# EAGLE library part OPEN_CON (library Bat-Components)
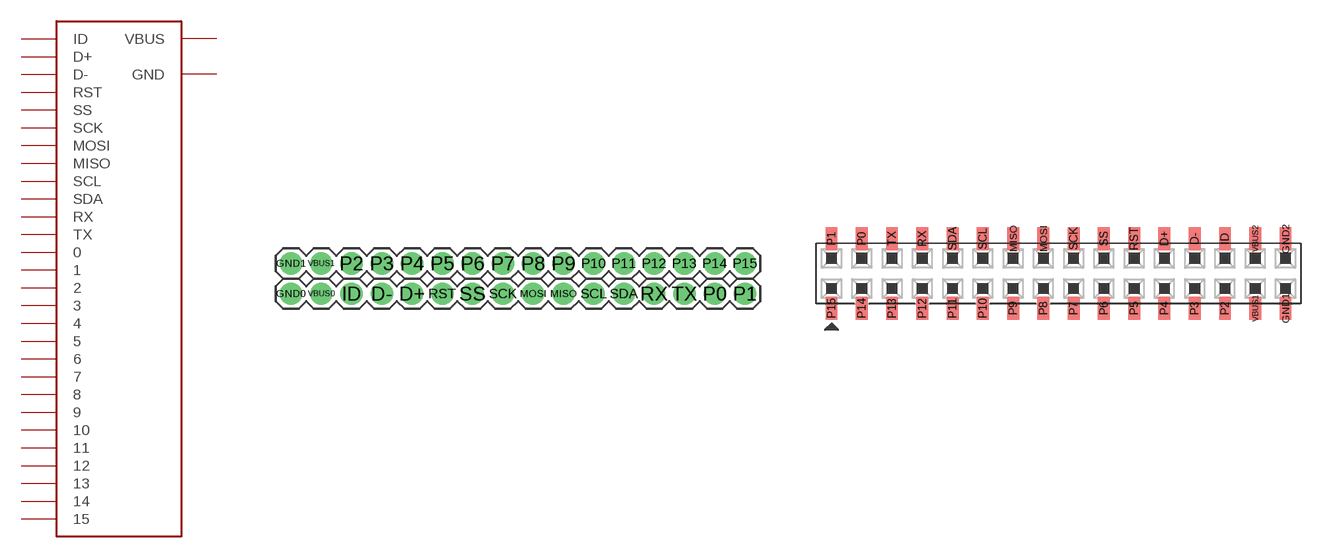
[diagram p1: symbol with the pads of 2X16; footprints 2X16, M1X8_SMD]

Designator prefix -

## OPEN_CONTRAVERSANTTRAVERSANT  [2X16]
D+  D+
D-  D-
GND0  GND
GND1  GND
ID  ID
MISO  MISO
MOSI  MOSI
P0  0
P1  1
P2  2
P3  3
P4  4
P5  5
P6  6
P7  7
P8  8
P9  9
P10  10
P11  11
P12  12
P13  13
P14  14
P15  15
RST  RST
RX  RX
SCK  SCK
SCL  SCL
SDA  SDA
SS  SS
TX  TX
VBUS0  VBUS
VBUS1  VBUS

## OPEN_CONSMD  [M1X8_SMD]
D+  D-
D-  D+
GND1  GND
GND2  GND
ID  ID
MISO  MISO
MOSI  MOSI
P0  0
P1  1
P2  2
P3  3
P4  4
P5  5
P6  6
P7  7
P8  8
P9  9
P10  10
P11  11
P12  12
P13  13
P14  14
P15  15
RST  RST
RX  RX
SCK  SCK
SCL  SCL
SDA  SDA
SS  SS
TX  TX
VBUS1  VBUS
VBUS2  VBUS

## Footprint 2X16 (pad centres in mm)
drill 1.016 pad 1.88: D+ 5.08,-2.54; D- 2.54,-2.54; GND0 -5.08,-2.54; GND1 -5.08,0; ID 0,-2.54; MISO 17.78,-2.54; MOSI 15.24,-2.54; P0 30.48,-2.54; P1 33.02,-2.54; P2 0,0; P3 2.54,0; P4 5.08,0; P5 7.62,0; P6 10.16,0; P7 12.7,0; P8 15.24,0; P9 17.78,0; P10 20.32,0; P11 22.86,0; P12 25.4,0; P13 27.94,0; P14 30.48,0; P15 33.02,0; RST 7.62,-2.54; RX 25.4,-2.54; SCK 12.7,-2.54; SCL 20.32,-2.54; SDA 22.86,-2.54; SS 10.16,-2.54; TX 27.94,-2.54; VBUS0 -2.54,-2.54; VBUS1 -2.54,0

## Footprint M1X8_SMD (pad centres in mm)
1x08 0.1" header SMD, 1.00 x 1.90 pad size Mfr no: NPTC081KFXC-RC NPTC081KFXC-RC <http://www.digikey.com/product-detail/en/NPTC081KFXC-RC/S5600-ND/776058>
smd 1 x 1.9: D+ 19.05,4.19; D- 21.59,4.19; GND1 29.21,-1.65; GND2 29.21,4.19; ID 24.13,4.19; MISO 6.35,4.19; MOSI 8.89,4.19; P0 -6.35,4.19; P1 -8.89,4.19; P2 24.13,-1.65; P3 21.59,-1.65; P4 19.05,-1.65; P5 16.51,-1.65; P6 13.97,-1.65; P7 11.43,-1.65; P8 8.89,-1.65; P9 6.35,-1.65; P10 3.81,-1.65; P11 1.27,-1.65; P12 -1.27,-1.65; P13 -3.81,-1.65; P14 -6.35,-1.65; P15 -8.89,-1.65; RST 16.51,4.19; RX -1.27,4.19; SCK 11.43,4.19; SCL 3.81,4.19; SDA 1.27,4.19; SS 13.97,4.19; TX -3.81,4.19; VBUS1 26.67,-1.65; VBUS2 26.67,4.19